# EAGLE library part MA12-2 (library con-edge-156)
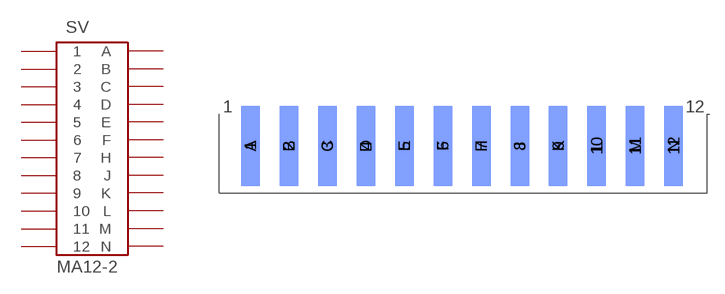
[diagram p1: symbol with the pads of MA12-2; footprint MA12-2]

Designator prefix SV

## MA12-2  [MA12-2]
1  1  pas
2  2  pas
3  3  pas
4  4  pas
5  5  pas
6  6  pas
7  7  pas
8  8  pas
9  9  pas
10  10  pas
11  11  pas
12  12  pas
A  A  pas
B  B  pas
C  C  pas
D  D  pas
E  E  pas
F  F  pas
H  H  pas
J  J  pas
K  K  pas
L  L  pas
M  M  pas
N  N  pas

## Footprint MA12-2 (pad centres in mm)
smd 1.905 x 8.255: 1 -21.285,-0.254; 2 -17.323,-0.254; 3 -13.36,-0.254; 4 -9.398,-0.254; 5 -5.436,-0.254; 6 -1.473,-0.254; 7 2.489,-0.254; 8 6.452,-0.254; 9 10.414,-0.254; 10 14.376,-0.254; 11 18.339,-0.254; 12 22.301,-0.254
smd 1.905 x 8.255 bottom: A -21.285,-0.254; B -17.323,-0.254; C -13.36,-0.254; D -9.398,-0.254; E -5.436,-0.254; F -1.473,-0.254; H 2.489,-0.254; J 6.452,-0.254; K 10.414,-0.254; L 14.376,-0.254; M 18.339,-0.254; N 22.301,-0.254